# Altium footprint library UVM AERO BSPD2.PcbLib: 51 footprints (part 4 of 4)
Each footprint in its own frame and in the unit in brackets; x right, y up, seen from the top. Pads: shape width x height; smd on the part's side, far side on the other; paste and mask are expansions set on the pad; w line width, h text height; cw(c..) or ccw(c..) is an arc to the next point about the centre after c.
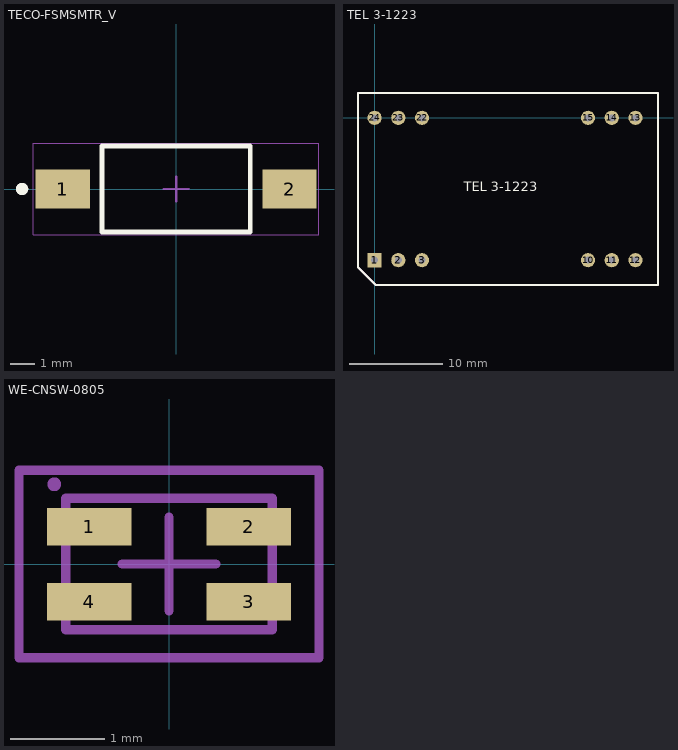
[diagram p3: the footprints below, top view; thin cyan lines are the x and y axes]

## TECO-FSMSMTR_V [mm] "SMD, 2-Leads, Body 6x3.5mm, Pitch 9.19mm"
height 4.57
pads (2):
  rect 2.2x1.6 smd: 1(-4.595,0)
  rect 2.18x1.6 smd: 2(4.595,0)
Top Overlay:
  circle w0.25: c-6.245,0 r0.125
  lines w0.2: -3,-1.75 3,-1.75 3,1.75 -3,1.75 -3,-1.75
Mechanical 13:
  lines w0.1: -3,-1.75 -3,1.75 3,1.75 3,-1.75 -3,-1.75
Mechanical 15:
  lines w0.05: -5.795,-1.85 5.785,-1.85 5.785,1.85 -5.795,1.85 -5.795,-1.85
  lines w0.1: -0.5,0 0.5,0 ; 0,-0.5 0,0.5
3D body "c-1437566-4-c-3d.stp": height 4.4, standoff -0.02, extent -4.984,-1.75 4.985,1.75

## TEL 3-1223 [mil]
pads (12):
  rect 60x60 hole 30: 1(0,-600)
  round 60 hole 30: 2(100,-600) 3(200,-600) 10(900,-600) 11(1000,-600) 12(1100,-600) 13(1100,0) 14(1000,0) 15(900,0) 22(200,0) 23(100,0) 24(0,0)
Top Overlay:
  lines w10: -70,-630 5,-705 1195,-705 1195,105 -70,105 -70,-630
  text "TEL 3-1223" at 375,-310 h40
Top Component Outline:
  lines w10: -70,-630 5,-705 1195,-705 1195,105 -70,105 -70,-630
3D body "tel3.STEP": height 402, standoff -178.71, extent -60,-697.28 1188.03,98

## WE-CNSW-0805 [mm] "SMD Inductor, 4-Leads, Body 1.4 x 2.2 mm"
height 1.4
pads (4):
  rect 0.9x0.4 smd: 1(-0.85,0.4) 2(0.85,0.4) 3(0.85,-0.4) 4(-0.85,-0.4)
Mechanical 13:
  circle w0.1: c-1.224,0.85 r0.024
  lines w0.1: -1.1,-0.7 -1.1,0.7 1.1,0.7 1.1,-0.7 -1.1,-0.7
Mechanical 15:
  lines w0.1: -0.5,0 0.5,0 ; 0,-0.5 0,0.5 ; -1.6,-1 -1.6,1 1.6,1 1.6,-1 -1.6,-1
3D body "744231371.stp": height 1.18, standoff -0.02, extent -1,-0.6 1,0.6